# EAGLE library part STM32C8 (library synth)
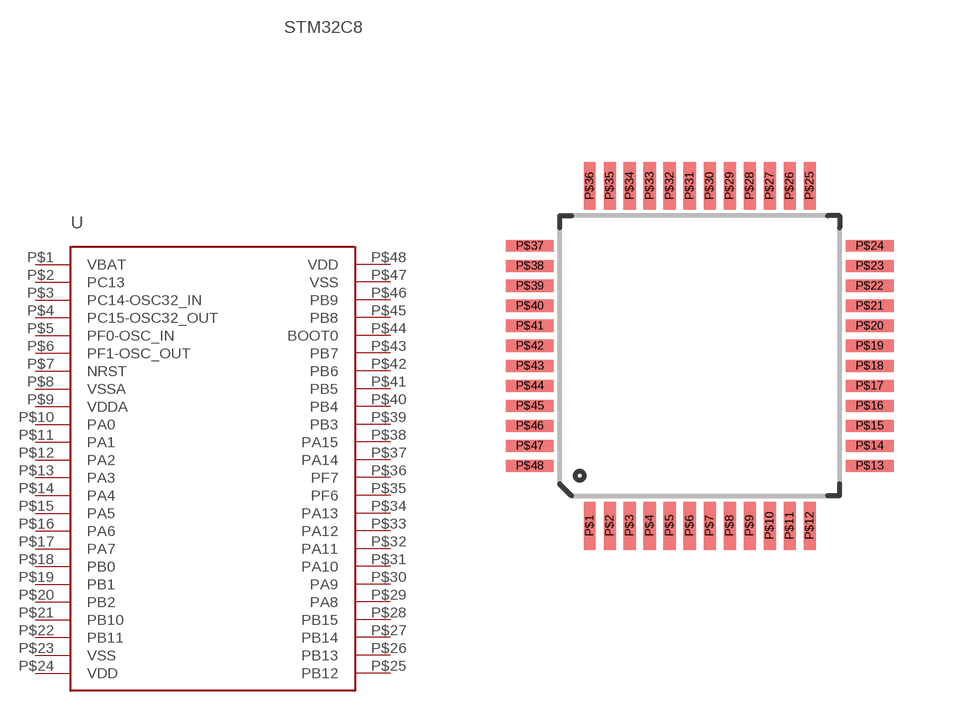
[diagram p2: symbol with the pads of LQFP48; footprint LQFP48]

Designator prefix -

## STM32C8  [LQFP48]
P$1  VBAT
P$2  PC13
P$3  PC14-OSC32_IN
P$4  PC15-OSC32_OUT
P$5  PF0-OSC_IN
P$6  PF1-OSC_OUT
P$7  NRST
P$8  VSSA
P$9  VDDA
P$10  PA0
P$11  PA1
P$12  PA2
P$13  PA3
P$14  PA4
P$15  PA5
P$16  PA6
P$17  PA7
P$18  PB0
P$19  PB1
P$20  PB2
P$21  PB10
P$22  PB11
P$23  VSS
P$24  VDD
P$25  PB12
P$26  PB13
P$27  PB14
P$28  PB15
P$29  PA8
P$30  PA9
P$31  PA10
P$32  PA11
P$33  PA12
P$34  PA13
P$35  PF6
P$36  PF7
P$37  PA14
P$38  PA15
P$39  PB3
P$40  PB4
P$41  PB5
P$42  PB6
P$43  PB7
P$44  BOOT0
P$45  PB8
P$46  PB9
P$47  VSS
P$48  VDD

## Footprint LQFP48 (pad centres in mm)
smd 0.3 x 1.2: P$1 -2.75,-4.25; P$2 -2.25,-4.25; P$3 -1.75,-4.25; P$4 -1.25,-4.25; P$5 -0.75,-4.25; P$6 -0.25,-4.25; P$7 0.25,-4.25; P$8 0.75,-4.25; P$9 1.25,-4.25; P$10 1.75,-4.25; P$11 2.25,-4.25; P$12 2.75,-4.25; P$25 2.75,4.25; P$26 2.25,4.25; P$27 1.75,4.25; P$28 1.25,4.25; P$29 0.75,4.25; P$30 0.25,4.25; P$31 -0.25,4.25; P$32 -0.75,4.25; P$33 -1.25,4.25; P$34 -1.75,4.25; P$35 -2.25,4.25; P$36 -2.75,4.25
smd 1.2 x 0.3: P$13 4.25,-2.75; P$14 4.25,-2.25; P$15 4.25,-1.75; P$16 4.25,-1.25; P$17 4.25,-0.75; P$18 4.25,-0.25; P$19 4.25,0.25; P$20 4.25,0.75; P$21 4.25,1.25; P$22 4.25,1.75; P$23 4.25,2.25; P$24 4.25,2.75; P$37 -4.25,2.75; P$38 -4.25,2.25; P$39 -4.25,1.75; P$40 -4.25,1.25; P$41 -4.25,0.75; P$42 -4.25,0.25; P$43 -4.25,-0.25; P$44 -4.25,-0.75; P$45 -4.25,-1.25; P$46 -4.25,-1.75; P$47 -4.25,-2.25; P$48 -4.25,-2.75